# Altium footprint library 3PhaseMotorDriver.PcbLib: 53 footprints (part 3 of 4)
Each footprint in its own frame and in the unit in brackets; x right, y up, seen from the top. Pads: shape width x height; smd on the part's side, far side on the other; paste and mask are expansions set on the pad; w line width, h text height; cw(c..) or ccw(c..) is an arc to the next point about the centre after c.
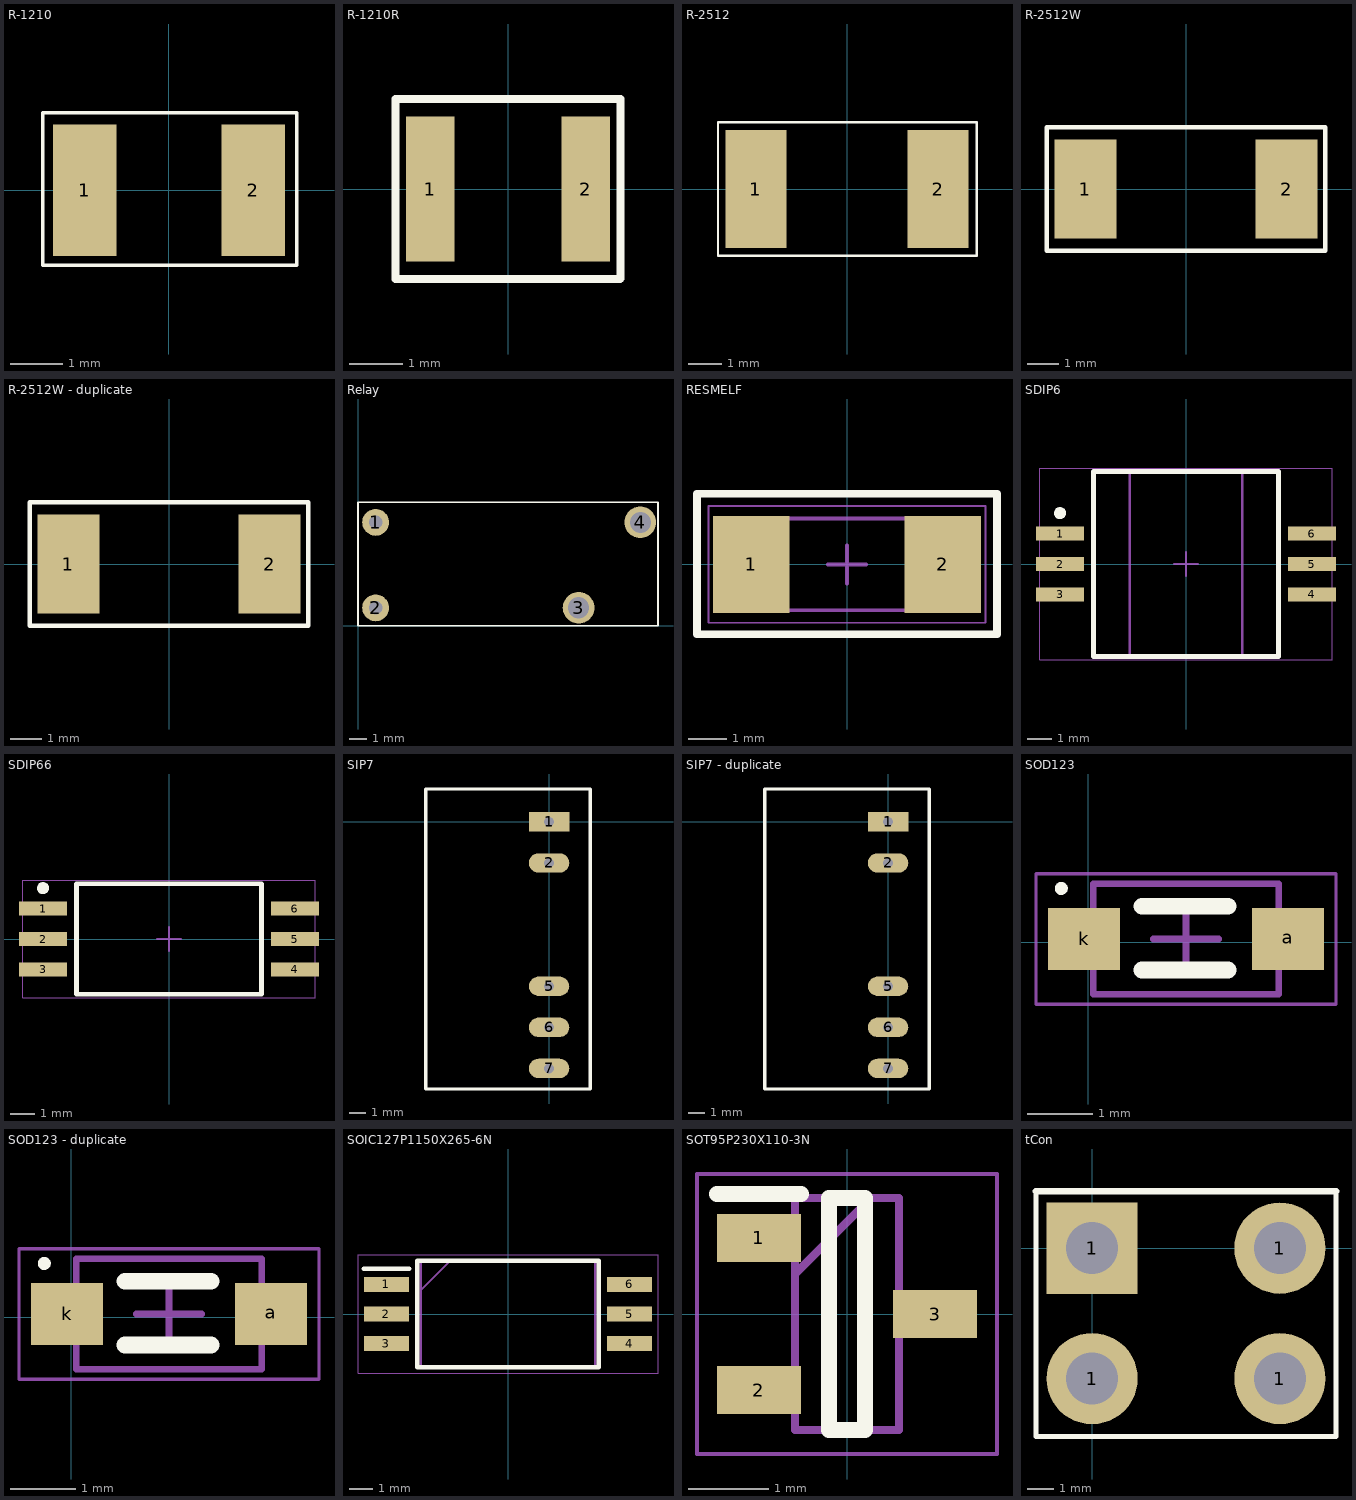
[diagram p2: the footprints below, top view; thin cyan lines are the x and y axes]

## R-1210 [mm]
pads (2):
  rect 1.2x2.5 smd: 1(-1.6,0) 2(1.6,0)
Top Overlay:
  lines w0.07: -2.4,-1.425 -2.4,0.9 -2.4,1.475 2.425,1.475 2.425,-1.425 -0.038,-1.425 -1.512,-1.425 -2.4,-1.425

## R-1210R [mm] "resistor 1210 reflow soldering"
pads (2):
  rect 0.9x2.7 smd: 1(-1.45,0) 2(1.45,0)
Top Overlay:
  lines w0.152: 2.1,1.66 2.1,-1.67 2.09,-1.68 1.25,-1.68 -2.1,-1.68 -2.1,1.68 2.1,1.68

## R-2512 [mm]
pads (2):
  rect 1.8x3.5 smd: 1(-2.7,0) 2(2.7,0)
Top Overlay:
  lines w0.07: -3.825,-1.975 -3.825,0.525 -3.825,1.975 3.85,1.975 3.85,-1.975 -3.825,-1.975
3D body "User Library-R SMD 2512.STEP": height 0.59, standoff -0.01, extent -3.206,-1.575 3.094,1.575

## R-2512W [mm] "resistor 2512 wave soldering"
pads (2):
  rect 2x3.2 smd: 1(-3.25,0) 2(3.25,0)
Top Overlay:
  lines w0.152: -4.5,-2 2.15,-2 4.5,-2 4.5,2 2.15,2 -4.5,2 -4.5,-2
3D body "res2512.stp": height 0.55, standoff 0, extent -3.15,-1.55 3.15,1.55

## R-2512W - duplicate [mm] "resistor 2512 wave soldering"
pads (2):
  rect 2x3.2 smd: 1(-3.25,0) 2(3.25,0)
Top Overlay:
  lines w0.152: -4.5,-2 2.15,-2 4.5,-2 4.5,2 2.15,2 -4.5,2 -4.5,-2
3D body "res2512.stp": height 0.55, standoff 0, extent -3.15,-1.55 3.15,1.55

## Relay [mm]
pads (4):
  round 1.524 hole 0.762: 1(1,5.86) 2(1,1.016)
  round 1.8 hole 1.2: 3(12.5,1.016) 4(16,5.86)
Top Overlay:
  lines w0.1: 0,0 0,7 17,7 17,0 0,0

## RESMELF [mm] "MELF Resistor, 2-Leads, Body 5.85x2.30mm, IPC Medium Density"
height 2.4
pads (2):
  rect 2x2.55 smd: 1(-2.5,0) 2(2.5,0)
Top Overlay:
  lines w0.2: -3.925,-1.825 -3.925,1.85 -1.572,1.85 -0.191,1.85 2.082,1.85 ; -3.9,-1.825 -1.2,-1.825 3.925,-1.825 3.925,1.85 ; 2.082,1.85 3.925,1.85 ; 2.082,1.85 3.925,1.85
Top Assembly:
  lines w0.1: -2.95,-1.2 -2.95,1.2 2.95,1.2 2.95,-1.2 -2.95,-1.2
Top Courtyard:
  lines w0.05: -3.625,-1.525 -3.625,1.525 3.625,1.525 3.625,-1.525 -3.625,-1.525
  lines w0.1: -0.5,0 0.5,0 ; 0,-0.5 0,0.5
3D body: height 2.39, standoff 0, extent -2.95,-1.2 -2.4,1.195
3D body: height 2.39, standoff 0, extent 2.4,-1.2 2.95,1.195
3D body "User Library-MMB0207_102K.STEP": height 2.4, standoff 0, extent -2.9,-1.2 2.9,1.2

## SDIP6 [mm]
height 2.65
pads (6):
  rect 2x0.6 smd: 1(-5.25,1.27) 2(-5.25,0) 3(-5.25,-1.27) 4(5.25,-1.27) 5(5.25,0) 6(5.25,1.27)
Top Overlay:
  circle w0.25: c-5.25,2.12 r0.125
  lines w0.2: -3.85,-3.85 -3.85,3.85 3.85,3.85 3.85,-3.85 -3.85,-3.85
Top Assembly:
  lines w0.1: -2.35,-3.85 2.35,-3.85 2.35,3.85 -2.35,3.85 -2.35,-3.85
Top Courtyard:
  lines w0.05: -6.1,-4 6.1,-4 6.1,4 -6.1,4 -6.1,-4
  lines w0.1: -0.5,0 0.5,0 ; 0,-0.5 0,0.5
3D body: height 2.65, standoff 0, extent -2.35,-3.85 2.35,3.85

## SDIP66 [mm]
height 2.65
pads (6):
  rect 2x0.6 smd: 1(-5.25,1.27) 2(-5.25,0) 3(-5.25,-1.27) 4(5.25,-1.27) 5(5.25,0) 6(5.25,1.27)
Top Overlay:
  circle w0.25: c-5.25,2.12 r0.125
  lines w0.2: -3.85,-2.3 3.85,-2.3 3.85,2.3 -3.85,2.3 -3.85,-2.3
Top Assembly:
  lines w0.1: -3.85,-2.3 -3.85,2.3 3.85,2.3 3.85,-2.3 -3.85,-2.3
Top Courtyard:
  lines w0.05: -6.1,-2.45 -6.1,2.45 6.1,2.45 6.1,-2.45 -6.1,-2.45
  lines w0.1: -0.5,0 0.5,0 ; 0,-0.5 0,0.5
3D body: height 2.65, standoff 0, extent -3.85,-2.3 3.85,2.3

## SIP7 [mm]
pads (5):
  rect 2.5x1.2 hole 0.6: 1(0,0)
  oval 2.5x1.2 hole 0.6: 2(0,-2.54) 5(0,-10.16) 6(0,-12.7) 7(0,-15.24)
Top Overlay:
  lines w0.2: -7.616,-16.51 2.54,-16.51 2.54,2.032 -7.616,2.032 -7.616,-16.51
3D body "mps_dcdc_mgj2d_sc_a.step": height 11.66, standoff -4.94, extent -7.239,-17.243 2.581,2.257

## SIP7 - duplicate [mm]
pads (5):
  rect 2.5x1.2 hole 0.6: 1(0,0)
  oval 2.5x1.2 hole 0.6: 2(0,-2.54) 5(0,-10.16) 6(0,-12.7) 7(0,-15.24)
Top Overlay:
  lines w0.2: -7.616,-16.51 -7.616,2.032 2.54,2.032 2.54,-16.51 -7.616,-16.51
3D body "mps_dcdc_mgj2d_sc_a.step": height 11.66, standoff -4.94, extent -7.239,-17.243 2.581,2.257

## SOD123 [mm]
height 1.35
pads (2):
  rect 1.1x0.95 smd: a(3.063,0.05) k(-0.062,0.05)
Top Overlay:
  circle w0.1: c-0.412,0.825 r0.05
  lines w0.254: 0.825,-0.425 2.15,-0.425 ; 0.825,0.55 2.15,0.55
Top Assembly:
  lines w0.1: 0.075,-0.8 0.075,0.9 2.925,0.9 2.925,-0.8 0.075,-0.8
Top Courtyard:
  lines w0.05: -0.8,-0.95 -0.8,1.05 3.8,1.05 3.8,-0.95 -0.8,-0.95
  lines w0.1: 1,0.05 2,0.05 ; 1.5,-0.45 1.5,0.55
3D body "CircuitWorks-SOD123.STEP": height 1.28, standoff 0.01, extent -0.375,-0.775 3.325,0.825

## SOD123 - duplicate [mm]
height 1.35
pads (2):
  rect 1.1x0.95 smd: a(3.063,0.05) k(-0.062,0.05)
Top Overlay:
  circle w0.1: c-0.412,0.825 r0.05
  lines w0.254: 0.825,-0.425 2.15,-0.425 ; 0.825,0.55 2.15,0.55
Top Assembly:
  lines w0.1: 0.075,-0.8 2.925,-0.8 2.925,0.9 0.075,0.9 0.075,-0.8
Top Courtyard:
  lines w0.05: -0.8,-0.95 3.8,-0.95 3.8,1.05 -0.8,1.05 -0.8,-0.95
  lines w0.1: 1,0.05 2,0.05 ; 1.5,-0.45 1.5,0.55
3D body "CircuitWorks-SOD123.STEP": height 1.28, standoff 0.01, extent -0.375,-0.775 3.325,0.825

## SOIC127P1150X265-6N [mm]
pads (6):
  rect 1.95x0.65 smd: 1(-5.225,1.27) 2(-5.225,0) 3(-5.225,-1.27) 4(5.225,-1.27) 5(5.225,0) 6(5.225,1.27)
Top Overlay:
  lines w0.2: -6.2,1.945 -4.25,1.945 ; -3.9,-2.29 3.9,-2.29 3.9,2.29 -3.9,2.29 -3.9,-2.29
Mechanical 13:
  lines w0.1: -3.75,1.02 -2.48,2.29 ; -3.75,-2.29 3.75,-2.29 3.75,2.29 -3.75,2.29 -3.75,-2.29
Mechanical 15:
  lines w0.05: -6.45,-2.54 6.45,-2.54 6.45,2.54 -6.45,2.54 -6.45,-2.54
3D body "Si8261ACD-C-IS.stp": height 2.65, standoff 0, extent -5.75,-2.29 5.75,2.29

## SOT95P230X110-3N [mm]
pads (3):
  rect 1.05x0.6 smd: 1(-1.1,0.95) 2(-1.1,-0.95) 3(1.1,0)
Top Overlay:
  lines w0.2: -1.625,1.5 -0.575,1.5 ; -0.225,-1.45 0.225,-1.45 0.225,1.45 -0.225,1.45 -0.225,-1.45
Mechanical 13:
  lines w0.1: -0.65,0.5 0.3,1.45 ; -0.65,-1.45 0.65,-1.45 0.65,1.45 -0.65,1.45 -0.65,-1.45
Mechanical 15:
  lines w0.05: -1.875,-1.75 1.875,-1.75 1.875,1.75 -1.875,1.75 -1.875,-1.75
3D body "BC817-40,235.stp": height 1.1, standoff 0, extent -1.15,-1.45 1.15,1.45

## tCon [mm]
pads (4):
  round 3.5 hole 2: 1(0,-5) 1(7.2,-5) 1(7.2,0)
  rect 3.5x3.5 hole 2: 1(0,0)
Top Overlay:
  lines w0.2: -2.15,2.175 -2.15,-7.225 -0.05,-7.225 5.75,-7.225 7.925,-7.225 9.35,-7.225 9.35,2.175
  lines w0.254: -2.15,2.175 9.35,2.175